# EAGLE library part HARWIN-M50-3201045 (library J-Harwin-M50-3201045-20pin-1.27-F-right-angle-th)
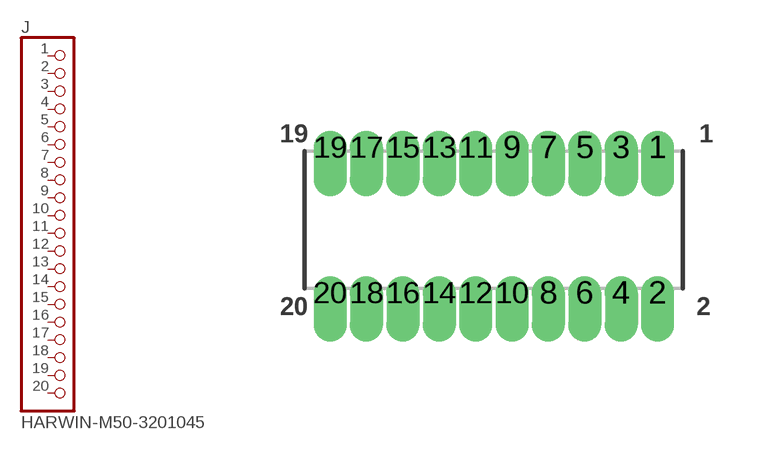
[diagram p0: symbol with the pads of HARWIN-M50-3201045; footprint HARWIN-M50-3201045]

Designator prefix J

## HARWIN-M50-3201045  [HARWIN-M50-3201045]
1  1  pas
2  2  pas
3  3  pas
4  4  pas
5  5  pas
6  6  pas
7  7  pas
8  8  pas
9  9  pas
10  10  pas
11  11  pas
12  12  pas
13  13  pas
14  14  pas
15  15  pas
16  16  pas
17  17  pas
18  18  pas
19  19  pas
20  20  pas

## Footprint HARWIN-M50-3201045 (pad centres in mm)
drill 0.635 pad 0.965 offset: 1 5.715,2.54; 2 5.715,-2.54; 3 4.445,2.54; 4 4.445,-2.54; 5 3.175,2.54; 6 3.175,-2.54; 7 1.905,2.54; 8 1.905,-2.54; 9 0.635,2.54; 10 0.635,-2.54; 11 -0.635,2.54; 12 -0.635,-2.54; 13 -1.905,2.54; 14 -1.905,-2.54; 15 -3.175,2.54; 16 -3.175,-2.54; 17 -4.445,2.54; 18 -4.445,-2.54; 19 -5.715,2.54; 20 -5.715,-2.54